# EAGLE library part TP4056 (library 32teeth - TP4056 Module)
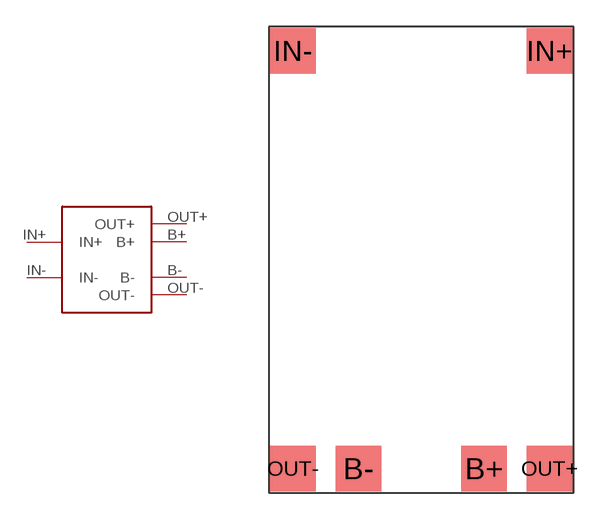
[diagram p0: symbol with the pads of TP4056; footprint TP4056]

Designator prefix -

## TP4056  [TP4056]
B+  B+
B-  B-
IN+  IN+
IN-  IN-
OUT+  OUT+
OUT-  OUT-

## Footprint TP4056 (pad centres in mm)
smd 2.54 x 2.54: B+ 12,1.35; B- 5,1.35; IN+ 15.65,24.65; IN- 1.35,24.65; OUT+ 15.65,1.35; OUT- 1.35,1.35